# Altium schematic symbol library NCV8164ASN250T1G.SchLib: 1 symbol
Pins are listed as number, name and electrical type; pins without a type are passive.

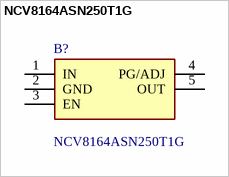
[diagram p0: symbol NCV8164ASN250T1G]

## NCV8164ASN250T1G
designator B?
1.6V to 5.5V input voltage; PSRR: 85 dB at 1 kHz; Low VDO at 2.8V @80mV max dropout; WDFN6 2 mm x 2 mm, DFNW8 3 mm x 3 mm, and TSOP-5; Ultra-Low Noise: 9VRMS; 150C operating Junction temperature; Manufacturer_Name: onsemi; Geometry.Height: 1.1mm; Manufacturer_Part_Number: NCV8164ASN250T1G; Mouser Part Number: 863-NCV8164ASN250T1G; Mouser Price/Stock: https://www.mouser.co.uk/ProductDetail/onsemi/NCV8164ASN250T1G?qs=DPoM0jnrROUQLzacndrwng%3D%3D; Arrow Part Number: NCV8164ASN250T1G; Arrow Price/Stock: https://www.arrow.com/en/products/ncv8164asn250t1g/on-semiconductor?region=nac; Datasheet Link: https://www.onsemi.com/pub/Collateral/NCV8164-D.PDF
footprint SOT95P275X110-5N
pins: 1 IN, 2 GND, 3 EN, 4 PG/ADJ, 5 OUT